# EAGLE library part UCC2721X (library ti)
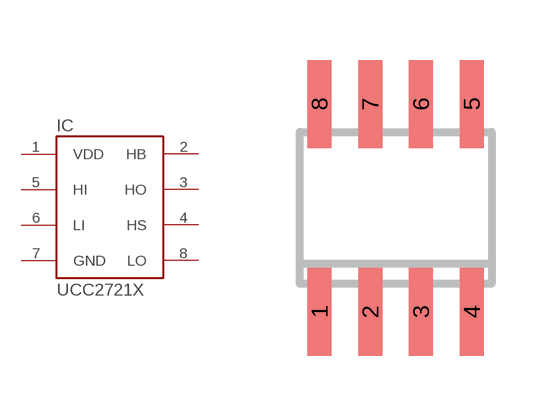
[diagram p8: symbol with the pads of SOIC-8; footprint SOIC-8]

Designator prefix IC

## UCC2721X  [SOIC-8]
1  VDD  pas
2  HB  pas
3  HO  pas
4  HS  pas
5  HI  pas
6  LI  pas
7  GND  pas
8  LO  pas

## Footprint SOIC-8 (pad centres in mm)
smd 0.6 x 2.2: 1 -1.905,-2.6; 2 -0.635,-2.6; 3 0.635,-2.6; 4 1.905,-2.6; 5 1.905,2.6; 6 0.635,2.6; 7 -0.635,2.6; 8 -1.905,2.6